# EAGLE library part TS4890 (library gee_s)
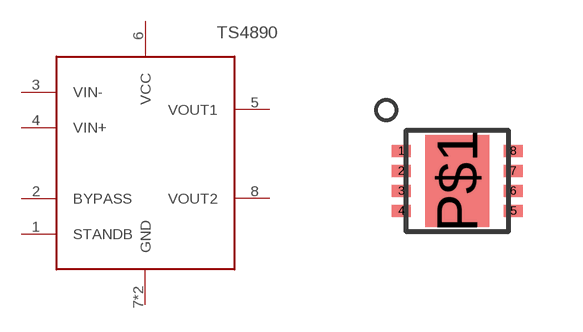
[diagram p40: symbol with the pads of DFN8; footprint DFN8]

Designator prefix -

## TS4890TS4890IQT  [DFN8]
1  STANDB
2  BYPASS
3  VIN-
4  VIN+
5  VOUT1
6  VCC
7  GND
8  VOUT2
P$1  GND

## Footprint DFN8 (pad centres in mm)
smd 0.475 x 0.3: 1 -1.4,0.75; 2 -1.4,0.25; 3 -1.4,-0.25; 4 -1.4,-0.75; 5 1.4,-0.75; 6 1.4,-0.25; 7 1.4,0.25; 8 1.4,0.75
smd 1.6 x 2.3: P$1 0,0